# Altium footprint library PcbLib.PcbLib: 6 footprints
Each footprint in its own frame and in the unit in brackets; x right, y up, seen from the top. Pads: shape width x height; smd on the part's side, far side on the other; paste and mask are expansions set on the pad; w line width, h text height; cw(c..) or ccw(c..) is an arc to the next point about the centre after c.
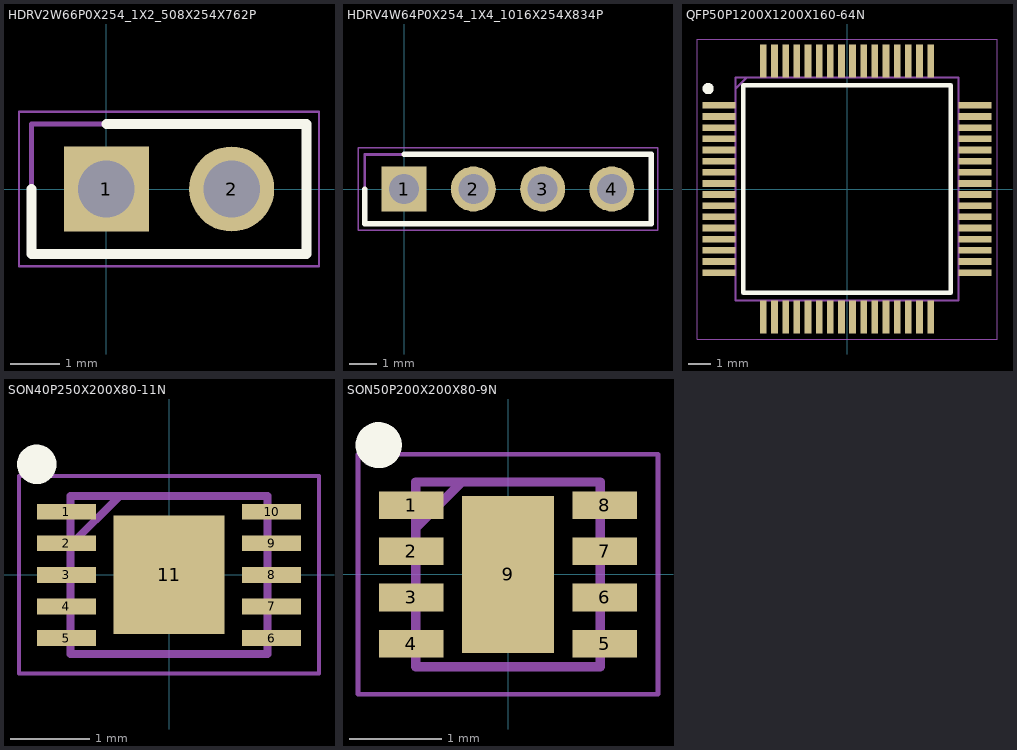
[diagram p0: the footprints below, top view; thin cyan lines are the x and y axes]

## HDRV2W66P0X254_1X2_508X254X762P [mm]
pads (2):
  rect 1.725x1.725 hole 1.15: 1(0,0)
  round 1.725 hole 1.15: 2(2.54,0)
Top Overlay:
  lines w0.2: -1.52,0 -1.52,-1.32 4.06,-1.32 4.06,1.32 0,1.32
Mechanical 13:
  lines w0.1: -1.52,-1.32 -1.52,1.32 4.06,1.32 4.06,-1.32 -1.52,-1.32
Mechanical 15:
  lines w0.05: -1.77,-1.57 -1.77,1.57 4.31,1.57 4.31,-1.57 -1.77,-1.57
3D body "M20-9770246.stp": height 8.34, standoff -3.14, extent -1.27,-1.27 3.81,1.27

## HDRV4W64P0X254_1X4_1016X254X834P [mm]
pads (4):
  rect 1.65x1.65 hole 1.1: 1(0,0)
  round 1.65 hole 1.1: 2(2.54,0) 3(5.08,0) 4(7.62,0)
Top Overlay:
  lines w0.2: -1.445,0 -1.445,-1.27 9.065,-1.27 9.065,1.27 0,1.27
Mechanical 13:
  lines w0.1: -1.445,-1.27 -1.445,1.27 9.065,1.27 9.065,-1.27 -1.445,-1.27
Mechanical 15:
  lines w0.05: -1.695,-1.52 -1.695,1.52 9.315,1.52 9.315,-1.52 -1.695,-1.52
3D body "M20-9770446.stp": height 8.34, standoff -3.1, extent -1.27,-1.27 8.89,1.27

## PCBComponent_1 [mm]

## QFP50P1200X1200X160-64N [mm]
pads (64):
  rect 1.475x0.3 smd: 1(-5.738,3.75) 2(-5.738,3.25) 3(-5.738,2.75) 4(-5.738,2.25) 5(-5.738,1.75) 6(-5.738,1.25) 7(-5.738,0.75) 8(-5.738,0.25) 9(-5.738,-0.25) 10(-5.738,-0.75) 11(-5.738,-1.25) 12(-5.738,-1.75) 13(-5.738,-2.25) 14(-5.738,-2.75) 15(-5.738,-3.25) 16(-5.738,-3.75) 33(5.738,-3.75) 34(5.738,-3.25) 35(5.738,-2.75) 36(5.738,-2.25) 37(5.738,-1.75) 38(5.738,-1.25) 39(5.738,-0.75) 40(5.738,-0.25) 41(5.738,0.25) 42(5.738,0.75) 43(5.738,1.25) 44(5.738,1.75) 45(5.738,2.25) 46(5.738,2.75) 47(5.738,3.25) 48(5.738,3.75)
  rect 0.3x1.475 smd: 17(-3.75,-5.738) 18(-3.25,-5.738) 19(-2.75,-5.738) 20(-2.25,-5.738) 21(-1.75,-5.738) 22(-1.25,-5.738) 23(-0.75,-5.738) 24(-0.25,-5.738) 25(0.25,-5.738) 26(0.75,-5.738) 27(1.25,-5.738) 28(1.75,-5.738) 29(2.25,-5.738) 30(2.75,-5.738) 31(3.25,-5.738) 32(3.75,-5.738) 49(3.75,5.738) 50(3.25,5.738) 51(2.75,5.738) 52(2.25,5.738) 53(1.75,5.738) 54(1.25,5.738) 55(0.75,5.738) 56(0.25,5.738) 57(-0.25,5.738) 58(-0.75,5.738) 59(-1.25,5.738) 60(-1.75,5.738) 61(-2.25,5.738) 62(-2.75,5.738) 63(-3.25,5.738) 64(-3.75,5.738)
Top Overlay:
  circle w0.25: c-6.225,4.5 r0.125
  lines w0.2: -4.65,-4.65 4.65,-4.65 4.65,4.65 -4.65,4.65 -4.65,-4.65
Mechanical 13:
  lines w0.1: -5,4.5 -4.5,5 ; -5,-5 5,-5 5,5 -5,5 -5,-5
Mechanical 15:
  lines w0.05: -6.725,-6.725 6.725,-6.725 6.725,6.725 -6.725,6.725 -6.725,-6.725
3D body "STM32F401RET7.stp": height 1.6, standoff 0, extent -6,-6 6,6

## SON40P250X200X80-11N [mm]
pads (11):
  rect 0.75x0.2 smd: 1(-1.3,0.8) 2(-1.3,0.4) 3(-1.3,0) 4(-1.3,-0.4) 5(-1.3,-0.8) 6(1.3,-0.8) 7(1.3,-0.4) 8(1.3,0) 9(1.3,0.4) 10(1.3,0.8)
  rect 1.4x1.5 smd: 11(0,0)
Top Overlay:
  circle w0.25: c-1.675,1.4 r0.125
Mechanical 13:
  lines w0.1: -1.25,0.375 -0.625,1 ; -1.25,-1 -1.25,1 1.25,1 1.25,-1 -1.25,-1
Mechanical 15:
  lines w0.05: -1.9,-1.25 -1.9,1.25 1.9,1.25 1.9,-1.25 -1.9,-1.25
3D body "MAX17055ETB+T.stp": height 0.8, standoff 0, extent -1.3,-1 1.3,1

## SON50P200X200X80-9N [mm]
pads (9):
  rect 0.7x0.3 smd: 1(-1.05,0.75) 2(-1.05,0.25) 3(-1.05,-0.25) 4(-1.05,-0.75) 5(1.05,-0.75) 6(1.05,-0.25) 7(1.05,0.25) 8(1.05,0.75)
  rect 1x1.7 smd: 9(0,0)
Top Overlay:
  circle w0.25: c-1.4,1.4 r0.125
Mechanical 13:
  lines w0.1: -1,0.5 -0.5,1 ; -1,-1 -1,1 1,1 1,-1 -1,-1
Mechanical 15:
  lines w0.05: -1.625,-1.3 -1.625,1.3 1.625,1.3 1.625,-1.3 -1.625,-1.3
3D body "DRV8210DSGR.stp": height 0.77, standoff 0, extent -1,-1 1,1